# Altium footprint library PCB - CONNECTOR - SAMTEC TSW-102-XX-YY-S.PcbLib: 1 footprints
Each footprint in its own frame and in the unit in brackets; x right, y up, seen from the top. Pads: shape width x height; smd on the part's side, far side on the other; paste and mask are expansions set on the pad; w line width, h text height; cw(c..) or ccw(c..) is an arc to the next point about the centre after c.
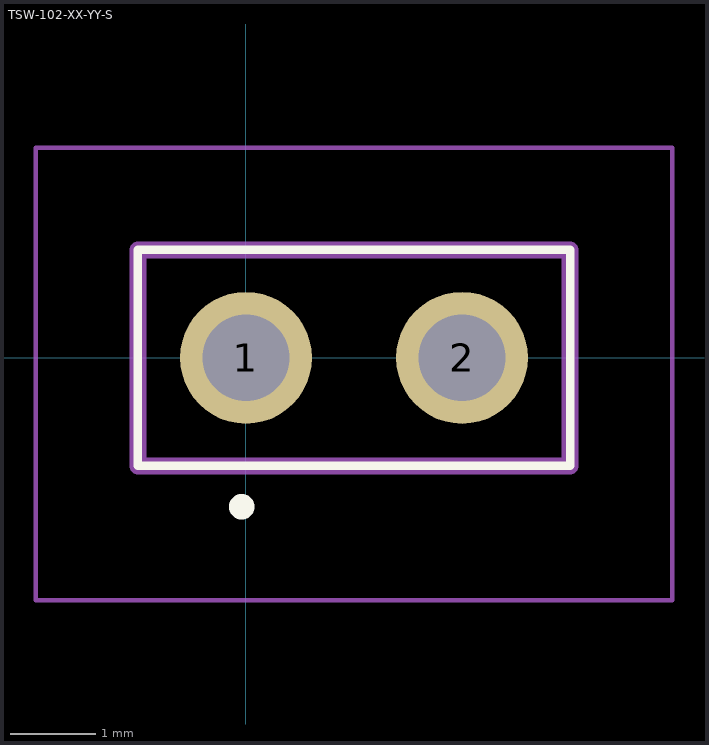
[diagram p0: the footprint, top view; thin cyan lines are the x and y axes]

## TSW-102-XX-YY-S [mm]
pads (2):
  round 1.55 hole 1.02: 1(0,0) 2(2.54,0)
Top Overlay:
  circle w0.2: c-0.05,-1.75 r0.05
  lines w0.1: -1.27,-1.27 3.81,-1.27 3.81,1.27 -1.27,1.27 -1.27,-1.27
Top Value (Mech13):
  lines w0.2: -1.27,-1.27 3.81,-1.27 3.81,1.27 -1.27,1.27 -1.27,-1.27
Mechanical 15:
  lines w0.05: -2.47,-2.85 5.01,-2.85 5.01,2.47 -2.47,2.47 -2.47,-2.85
3D body "TSW-102-07-G-S.stp": height 9.16, standoff -3.03, extent -1.387,-1.28 3.82,1.26